# EAGLE library part LTC1693-2 (library BMS)
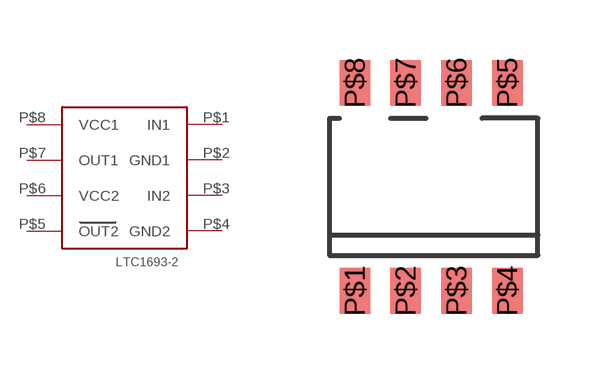
[diagram p5: symbol with the pads of S8-LTC1693-2; footprint S8-LTC1693-2]

Designator prefix -

## LTC1693-2  [S8-LTC1693-2]
P$1  IN1
P$2  GND1
P$3  IN2
P$4  GND2
P$5  OUT2
P$6  VCC2
P$7  OUT1
P$8  VCC1

## Footprint S8-LTC1693-2 (pad centres in mm)
smd 0.762 x 1.143: P$1 0,0; P$2 1.27,0; P$3 2.54,0; P$4 3.81,0; P$5 3.81,5.207; P$6 2.54,5.207; P$7 1.27,5.207; P$8 0,5.207